# EAGLE library part STM32F4-DISCOVERY (library STM32F4-DISCOVERY_CF_INTECH)
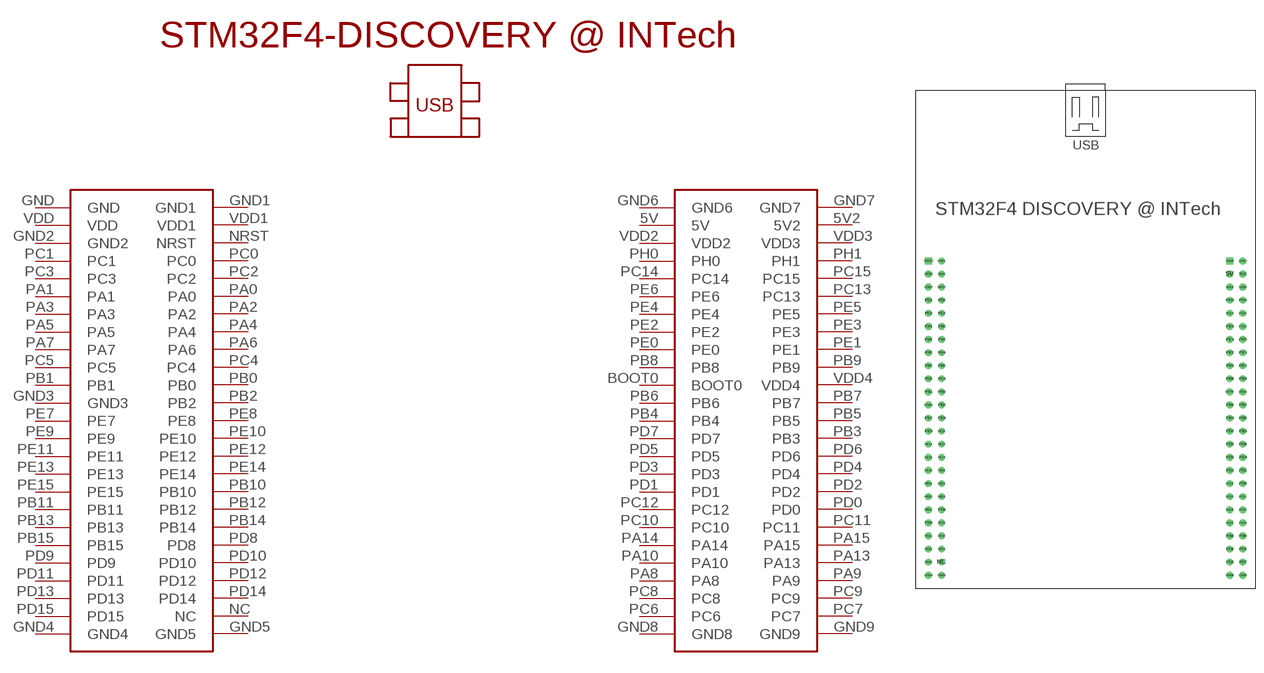
[diagram p0: symbol with the pads of STM32F4-DISCOVERY; footprint STM32F4-DISCOVERY]

Designator prefix -

## STM32F4-DISCOVERY  [STM32F4-DISCOVERY]
5V  5V
5V2  5V2
BOOT0  BOOT0
GND  GND
GND1  GND1
GND2  GND2
GND3  GND3
GND4  GND4
GND5  GND5
GND6  GND6
GND7  GND7
GND8  GND8
GND9  GND9
NC  NC
NRST  NRST
PA0  PA0
PA1  PA1
PA2  PA2
PA3  PA3
PA4  PA4
PA5  PA5
PA6  PA6
PA7  PA7
PA8  PA8
PA9  PA9
PA10  PA10
PA13  PA13
PA14  PA14
PA15  PA15
PB0  PB0
PB1  PB1
PB2  PB2
PB3  PB3
PB4  PB4
PB5  PB5
PB6  PB6
PB7  PB7
PB8  PB8
PB9  PB9
PB10  PB10
PB11  PB11
PB12  PB12
PB13  PB13
PB14  PB14
PB15  PB15
PC0  PC0
PC1  PC1
PC2  PC2
PC3  PC3
PC4  PC4
PC5  PC5
PC6  PC6
PC7  PC7
PC8  PC8
PC9  PC9
PC10  PC10
PC11  PC11
PC12  PC12
PC13  PC13
PC14  PC14
PC15  PC15
PD0  PD0
PD1  PD1
PD2  PD2
PD3  PD3
PD4  PD4
PD5  PD5
PD6  PD6
PD7  PD7
PD8  PD8
PD9  PD9
PD10  PD10
PD11  PD11
PD12  PD12
PD13  PD13
PD14  PD14
PD15  PD15
PE0  PE0
PE1  PE1
PE2  PE2
PE3  PE3
PE4  PE4
PE5  PE5
PE6  PE6
PE7  PE7
PE8  PE8
PE9  PE9
PE10  PE10
PE11  PE11
PE12  PE12
PE13  PE13
PE14  PE14
PE15  PE15
PH0  PH0
PH1  PH1
VDD  VDD
VDD1  VDD1
VDD2  VDD2
VDD3  VDD3
VDD4  VDD4

## Footprint STM32F4-DISCOVERY (pad centres in mm)
drill 0.8: 5V 27.94,12.7; 5V2 30.48,12.7; BOOT0 27.94,-10.16; GND1 -27.94,15.24; GND2 -30.48,10.16; GND3 -30.48,-12.7; GND4 -30.48,-45.72; GND5 -27.94,-45.72; GND7 30.48,15.24; GND8 27.94,-45.72; GND9 30.48,-45.72; NC -27.94,-43.18; NRST -27.94,10.16; PA0 -27.94,2.54; PA1 -30.48,2.54; PA2 -27.94,0; PA3 -30.48,0; PA4 -27.94,-2.54; PA5 -30.48,-2.54; PA6 -27.94,-5.08; PA7 -30.48,-5.08; PA8 27.94,-38.1; PA9 30.48,-38.1; PA10 27.94,-35.56; PA13 30.48,-35.56; PA14 27.94,-33.02; PA15 30.48,-33.02; PB0 -27.94,-10.16; PB1 -30.48,-10.16; PB2 -27.94,-12.7; PB3 30.48,-17.78; PB4 27.94,-15.24; PB5 30.48,-15.24; PB6 27.94,-12.7; PB7 30.48,-12.7; PB8 27.94,-7.62; PB9 30.48,-7.62; PB10 -27.94,-25.4; PB11 -30.48,-27.94; PB12 -27.94,-27.94; PB13 -30.48,-30.48; PB14 -27.94,-30.48; PB15 -30.48,-33.02; PC0 -27.94,7.62; PC1 -30.48,7.62; PC2 -27.94,5.08; PC3 -30.48,5.08; PC4 -27.94,-7.62; PC5 -30.48,-7.62; PC6 27.94,-43.18; PC7 30.48,-43.18; PC8 27.94,-40.64; PC9 30.48,-40.64; PC10 27.94,-30.48; PC11 30.48,-30.48; PC12 27.94,-27.94; PC13 30.48,2.54; PC14 27.94,5.08; PC15 30.48,5.08; PD0 30.48,-27.94; PD1 27.94,-25.4; PD2 30.48,-25.4; PD3 27.94,-22.86; PD4 30.48,-22.86; PD5 27.94,-20.32; PD6 30.48,-20.32; PD7 27.94,-17.78; PD8 -27.94,-33.02; PD9 -30.48,-35.56; PD10 -27.94,-35.56; PD11 -30.48,-38.1; PD12 -27.94,-38.1; PD13 -30.48,-40.64; PD14 -27.94,-40.64; PD15 -30.48,-43.18; PE0 27.94,-5.08; PE1 30.48,-5.08; PE2 27.94,-2.54; PE3 30.48,-2.54; PE4 27.94,0; PE5 30.48,0; PE6 27.94,2.54; PE7 -30.48,-15.24; PE8 -27.94,-15.24; PE9 -30.48,-17.78; PE10 -27.94,-17.78; PE11 -30.48,-20.32; PE12 -27.94,-20.32; PE13 -30.48,-22.86; PE14 -27.94,-22.86; PE15 -30.48,-25.4; PH0 27.94,7.62; PH1 30.48,7.62; VDD -30.48,12.7; VDD1 -27.94,12.7; VDD2 27.94,10.16; VDD3 30.48,10.16; VDD4 30.48,-10.16
drill 0.8 square: GND -30.48,15.24; GND6 27.94,15.24